# Altium footprint library LAN8720A.PcbLib: 1 footprints
Each footprint in its own frame and in the unit in brackets; x right, y up, seen from the top. Pads: shape width x height; smd on the part's side, far side on the other; paste and mask are expansions set on the pad; w line width, h text height; cw(c..) or ccw(c..) is an arc to the next point about the centre after c.
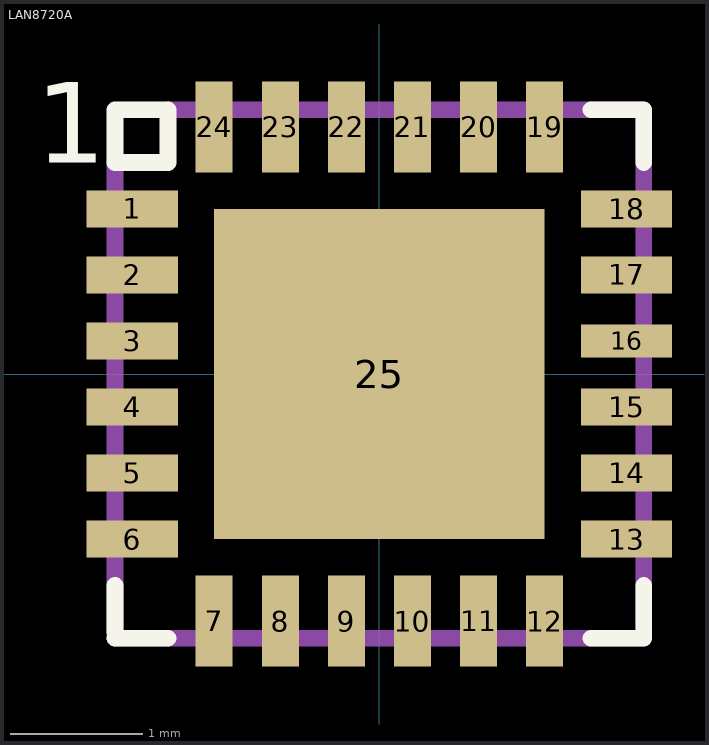
[diagram p0: the footprint, top view; thin cyan lines are the x and y axes]

## LAN8720A [mm]
pads (25):
  rect 0.69x0.28 smd: 1(-1.87,1.25) 2(-1.87,0.75) 3(-1.87,0.25) 4(-1.87,-0.25) 5(-1.87,-0.75) 6(-1.87,-1.25) 13(1.87,-1.25) 14(1.87,-0.75) 15(1.87,-0.25) 17(1.87,0.75) 18(1.87,1.25)
  rect 0.28x0.69 smd: 7(-1.25,-1.87) 8(-0.75,-1.87) 9(-0.25,-1.87) 10(0.25,-1.87) 11(0.75,-1.87) 12(1.25,-1.87) 19(1.25,1.87) 20(0.75,1.87) 21(0.25,1.87) 22(-0.25,1.87) 23(-0.75,1.87) 24(-1.25,1.87)
  rect 0.69x0.25 smd: 16(1.87,0.25)
  rect 2.5x2.5 smd: 25(0,0)
Top Overlay:
  lines w0.127: -2,-2 -1.6,-2 ; -2,-1.95 -2,-1.6 ; 1.6,-2 2,-2 2,-1.6 ; 1.6,2 2,2 2,1.6 ; -2,1.6 -2,2 -1.6,2 -1.6,1.6 -2,1.6
  text "1" at -2.6,1.6 h0.61
  text "1" at -2.6,1.6 h0.61
Assembly Top:
  lines w0.127: -2,1.6 -2,-2 2,-2 2,2 -1.6,2
3D body "step_temp.STEP": height 0.95, standoff -0.05, extent -2,-2 2,2